# EAGLE library part PCF8575C (library new-pca9306)
PCF8575C I/O Expander.
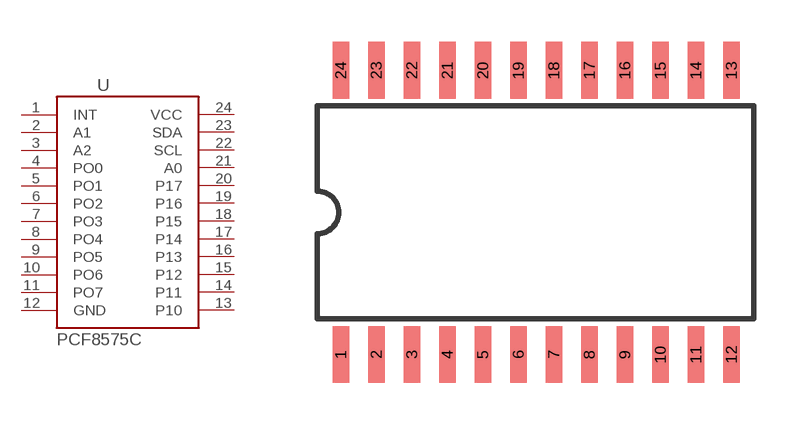
[diagram p45: symbol with the pads of SO-24DW; footprint SO-24DW]

Designator prefix -

## PCF8575C  [SO-24DW]
1  INT
2  A1
3  A2
4  PO0
5  PO1
6  PO2
7  PO3
8  PO4
9  PO5
10  PO6
11  PO7
12  GND
13  P10
14  P11
15  P12
16  P13
17  P14
18  P15
19  P16
20  P17
21  A0
22  SCL
23  SDA
24  VCC

## Footprint SO-24DW (pad centres in mm)
300-mil body, package type SO
smd 0.584 x 2.032: 1 -6.35,-5.08; 2 -5.08,-5.08; 3 -3.81,-5.08; 4 -2.54,-5.08; 5 -1.27,-5.08; 6 0,-5.08; 7 1.27,-5.08; 8 2.54,-5.08; 9 3.81,-5.08; 10 5.08,-5.08; 11 6.35,-5.08; 12 7.62,-5.08; 13 7.62,5.08; 14 6.35,5.08; 15 5.08,5.08; 16 3.81,5.08; 17 2.54,5.08; 18 1.27,5.08; 19 0,5.08; 20 -1.27,5.08; 21 -2.54,5.08; 22 -3.81,5.08; 23 -5.08,5.08; 24 -6.35,5.08